# EAGLE library part STM32F410RB (library saha-cpu)
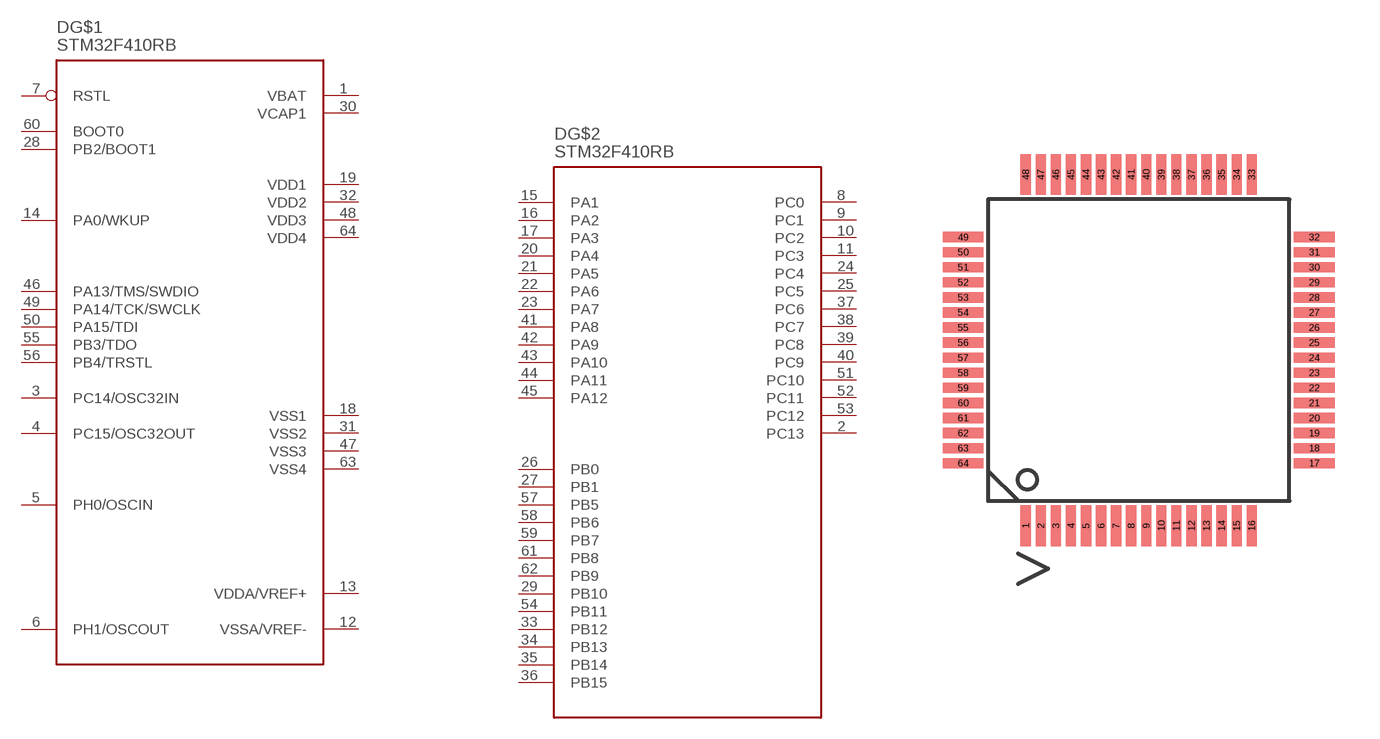
[diagram p2: symbol with the pads of LQFP-64; footprint LQFP-64]

Designator prefix D; gates G$1=STM32F410RB G$2=STM32F410RB_PORT

## STM32F410RB  [LQFP-64]
1  G$1:VBAT
2  G$2:PC13
3  G$1:PC14/OSC32IN
4  G$1:PC15/OSC32OUT
5  G$1:PH0/OSCIN
6  G$1:PH1/OSCOUT
7  G$1:RSTL
8  G$2:PC0
9  G$2:PC1
10  G$2:PC2
11  G$2:PC3
12  G$1:VSSA/VREF-
13  G$1:VDDA/VREF+
14  G$1:PA0/WKUP
15  G$2:PA1
16  G$2:PA2
17  G$2:PA3
18  G$1:VSS1
19  G$1:VDD1
20  G$2:PA4
21  G$2:PA5
22  G$2:PA6
23  G$2:PA7
24  G$2:PC4
25  G$2:PC5
26  G$2:PB0
27  G$2:PB1
28  G$1:PB2/BOOT1
29  G$2:PB10
30  G$1:VCAP1
31  G$1:VSS2
32  G$1:VDD2
33  G$2:PB12
34  G$2:PB13
35  G$2:PB14
36  G$2:PB15
37  G$2:PC6
38  G$2:PC7
39  G$2:PC8
40  G$2:PC9
41  G$2:PA8
42  G$2:PA9
43  G$2:PA10
44  G$2:PA11
45  G$2:PA12
46  G$1:PA13/TMS/SWDIO
47  G$1:VSS3
48  G$1:VDD3
49  G$1:PA14/TCK/SWCLK
50  G$1:PA15/TDI
51  G$2:PC10
52  G$2:PC11
53  G$2:PC12
54  G$2:PB11
55  G$1:PB3/TDO
56  G$1:PB4/TRSTL
57  G$2:PB5
58  G$2:PB6
59  G$2:PB7
60  G$1:BOOT0
61  G$2:PB8
62  G$2:PB9
63  G$1:VSS4
64  G$1:VDD4

## Footprint LQFP-64 (pad centres in mm)
smd 0.34 x 1.35: 1 -3.75,-5.825; 2 -3.25,-5.825; 3 -2.75,-5.825; 4 -2.25,-5.825; 5 -1.75,-5.825; 6 -1.25,-5.825; 7 -0.75,-5.825; 8 -0.25,-5.825; 9 0.25,-5.825; 10 0.75,-5.825; 11 1.25,-5.825; 12 1.75,-5.825; 13 2.25,-5.825; 14 2.75,-5.825; 15 3.25,-5.825; 16 3.75,-5.825; 33 3.75,5.825; 34 3.25,5.825; 35 2.75,5.825; 36 2.25,5.825; 37 1.75,5.825; 38 1.25,5.825; 39 0.75,5.825; 40 0.25,5.825; 41 -0.25,5.825; 42 -0.75,5.825; 43 -1.25,5.825; 44 -1.75,5.825; 45 -2.25,5.825; 46 -2.75,5.825; 47 -3.25,5.825; 48 -3.75,5.825
smd 1.35 x 0.34: 17 5.825,-3.75; 18 5.825,-3.25; 19 5.825,-2.75; 20 5.825,-2.25; 21 5.825,-1.75; 22 5.825,-1.25; 23 5.825,-0.75; 24 5.825,-0.25; 25 5.825,0.25; 26 5.825,0.75; 27 5.825,1.25; 28 5.825,1.75; 29 5.825,2.25; 30 5.825,2.75; 31 5.825,3.25; 32 5.825,3.75; 49 -5.825,3.75; 50 -5.825,3.25; 51 -5.825,2.75; 52 -5.825,2.25; 53 -5.825,1.75; 54 -5.825,1.25; 55 -5.825,0.75; 56 -5.825,0.25; 57 -5.825,-0.25; 58 -5.825,-0.75; 59 -5.825,-1.25; 60 -5.825,-1.75; 61 -5.825,-2.25; 62 -5.825,-2.75; 63 -5.825,-3.25; 64 -5.825,-3.75